# Altium schematic symbol library CAP,Trimmer,6.5p-30p,100V,TH.Schlib: 1 symbol
Pins are listed as number, name and electrical type; pins without a type are passive.

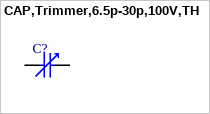
[diagram p0: symbol CAP,Trimmer,6.5p-30p,100V,TH]

## CAP,Trimmer,6.5p-30p,100V,TH
designator C?
pins: 1, 2